# Altium schematic symbol library NixiePSU.SchLib: 1 symbol
Pins are listed as number, name and electrical type; pins without a type are passive.

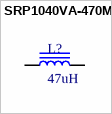
[diagram p0: symbol SRP1040VA-470M]

## SRP1040VA-470M
designator L?, comment 47uH
FIXED IND 47UH 4A 167MOHM SMD; Current - Saturation: 4.5A; ComponentLink1Description: Datasheet; ComponentLink1URL: https://www.bourns.com/docs/product-datasheets/srp1040va.pdf?sfvrsn=d53f46f6_2; Value: 47uH; Current Rating (Amps): 4A; DC Resistance (DCR): 167mOhm; Height - Seated (Max): 4mm; Supplier 1: DigiKey; Supplier Part Number 1: 118-SRP1040VA-470MCT-ND
footprint SRP1040VA
footprint SRP1040VA
pins: 1, 2